# Altium schematic symbol library SW_DP3T.SchLib: 1 symbol
Pins are listed as number, name and electrical type; pins without a type are passive.

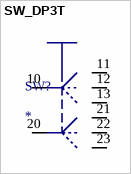
[diagram p0: symbol SW_DP3T]

## SW_DP3T
designator SW?
pins: 10, 11 23, 12, 13, 20, 21, 22, 23